# Altium footprint library RCL_box.PcbLib: 17 footprints (part 1 of 2)
Each footprint in its own frame and in the unit in brackets; x right, y up, seen from the top. Pads: shape width x height; smd on the part's side, far side on the other; paste and mask are expansions set on the pad; w line width, h text height; cw(c..) or ccw(c..) is an arc to the next point about the centre after c.
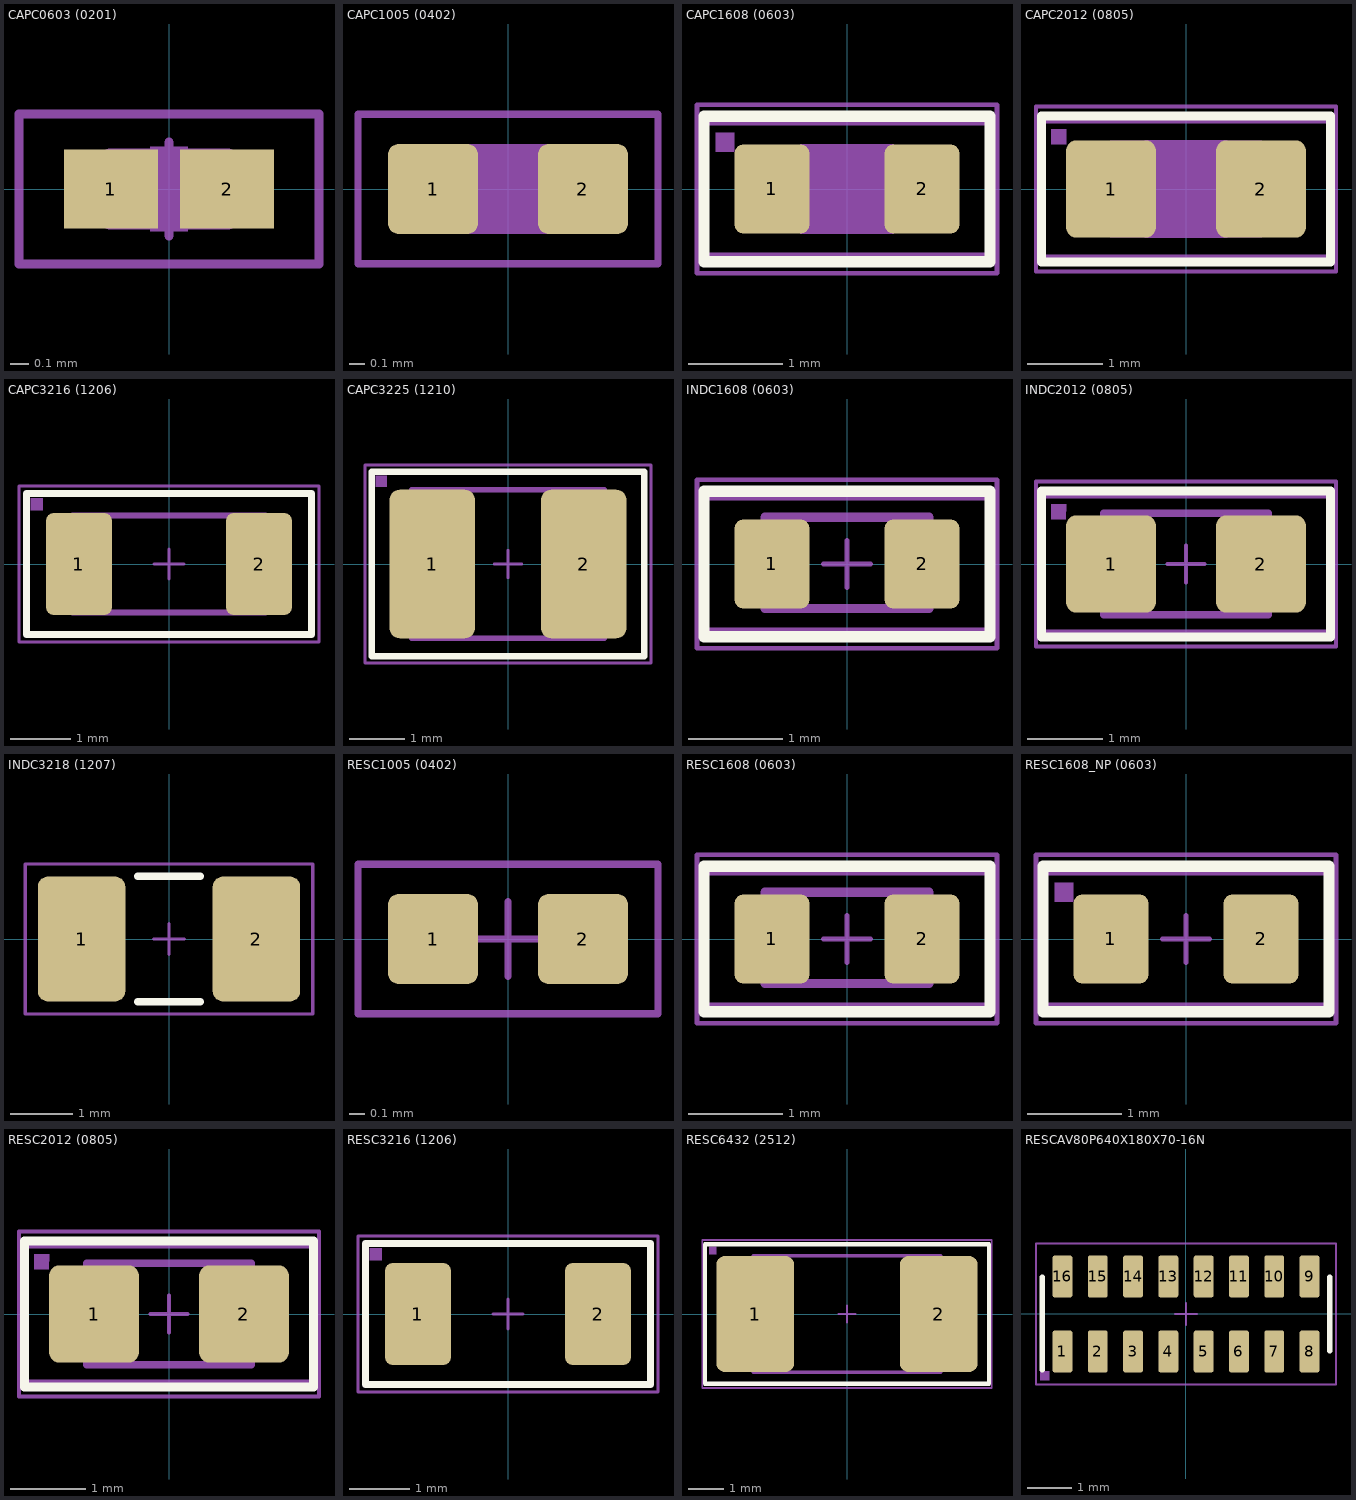
[diagram p0: the footprints below, top view; thin cyan lines are the x and y axes]

## CAPC0603 (0201) [mm] "Metric (Imperial)"
height 0.33
pads (2):
  rect 0.5x0.42 smd: 1(-0.31,0) 2(0.31,0)
13. 3D Model TOP:
  pour cut-out: -0.1,0.225 0.1,0.225 0.1,-0.225 -0.1,-0.225
15. Courtyard TOP:
  lines w0.05: -0.25,0 0.25,0 ; 0,-0.25 0,0.25 ; -0.8,-0.4 0.8,-0.4 0.8,0.4 -0.8,0.4 -0.8,-0.4
17. Comp.body:
  lines w0.1: -0.315,-0.165 0.315,-0.165 0.315,0.165 -0.315,0.165 -0.315,-0.165
18. Assembly TOP:
  lines w0.05: -0.8,-0.4 0.8,-0.4 0.8,0.4 -0.8,0.4 -0.8,-0.4
  text ".designator" at -0.9,-0.25 h0.5
3D body: height 0.33, standoff 0, extent 0.165,-0.165 0.315,0.165
3D body: height 0.33, standoff 0, extent -0.315,-0.165 -0.165,0.165
3D body: height 0.33, standoff 0, extent -0.165,-0.165 0.165,0.165

## CAPC1005 (0402) [mm] "Metric (Imperial)"
height 0.4
pads (2):
  rrect23% 0.6x0.6 smd: 1(-0.5,0) 2(0.5,0)
13. 3D Model TOP:
  pour cut-out: -0.275,0.3 0.275,0.3 0.275,-0.3 -0.275,-0.3
15. Courtyard TOP:
  lines w0.05: -0.25,0 0.25,0 ; 0,-0.25 0,0.25 ; -1,-0.5 -1,0.5 1,0.5 1,-0.5 -1,-0.5
17. Comp.body:
  lines w0.1: -0.5,-0.25 -0.5,0.25 0.5,0.25 0.5,-0.25 -0.5,-0.25
18. Assembly TOP:
  lines w0.05: -1,-0.5 -1,0.5 1,0.5 1,-0.5 -1,-0.5
  text ".designator" at -0.9,-0.25 h0.5
3D body: height 0.48, standoff -0.02, extent -0.5,-0.25 0.5,0.25

## CAPC1608 (0603) [mm] "Metric (Imperial)"
height 0.55
pads (2):
  rrect23% 0.8x0.95 smd: 1(-0.8,0) 2(0.8,0)
Top Overlay:
  lines w0.12: -1.525,-0.775 1.525,-0.775 1.525,0.775 -1.525,0.775 -1.525,-0.775
13. 3D Model TOP:
  pour cut-out: -0.5,0.475 0.5,0.475 0.5,-0.475 -0.5,-0.475
15. Courtyard TOP:
  lines w0.05: -0.25,0 0.25,0 ; 0,-0.25 0,0.25 ; -1.6,-0.9 -1.6,0.9 1.6,0.9 1.6,-0.9 -1.6,-0.9
17. Comp.body:
  lines w0.1: -0.8,-0.4 -0.8,0.4 0.8,0.4 0.8,-0.4 -0.8,-0.4
18. Assembly TOP:
  region: -1.4,0.6 -1.2,0.6 -1.2,0.4 -1.4,0.4
  lines w0.05: -1.5,-0.7 -1.5,0.7 1.5,0.7 1.5,-0.7 -1.5,-0.7
  text ".designator" at -1.275,-0.35 h0.7
3D body: height 0.81, standoff 0.01, extent -0.8,-0.4 0.8,0.4

## CAPC2012 (0805) [mm] "Metric (Imperial)"
height 0.7
pads (2):
  rrect23% 1.2x1.3 smd: 1(-1,0) 2(1,0)
Top Overlay:
  lines w0.12: -1.925,-0.975 1.925,-0.975 1.925,0.975 -1.925,0.975 -1.925,-0.975
13. 3D Model TOP:
  pour cut-out: -0.55,0.65 0.55,0.65 0.55,-0.65 -0.55,-0.65
15. Courtyard TOP:
  lines w0.05: -0.25,0 0.25,0 ; 0,-0.25 0,0.25 ; -2,-1.1 -2,1.1 2,1.1 2,-1.1 -2,-1.1
17. Comp.body:
  lines w0.1: -1,-0.6 -1,0.6 1,0.6 1,-0.6 -1,-0.6
18. Assembly TOP:
  region: -1.8,0.8 -1.6,0.8 -1.6,0.6 -1.8,0.6
  lines w0.05: -1.9,-0.9 1.9,-0.9 1.9,0.9 -1.9,0.9 -1.9,-0.9
  text ".designator" at -1.825,-0.5 h1
3D body: height 0.61, standoff 0.01, extent -1,-0.625 1,0.625

## CAPC3216 (1206) [mm] "Metric (Imperial)"
height 2.54
pads (2):
  rrect23% 1.1x1.7 smd: 1(-1.5,0) 2(1.5,0)
Top Overlay:
  lines w0.12: -2.375,-1.175 -2.375,1.175 2.375,1.175 2.375,-1.175 -2.375,-1.175
15. Courtyard TOP:
  lines w0.05: -0.25,0 0.25,0 ; 0,-0.25 0,0.25 ; -2.5,-1.3 2.5,-1.3 2.5,1.3 -2.5,1.3 -2.5,-1.3
17. Comp.body:
  lines w0.1: -1.61,0.81 1.61,0.81 1.61,-0.81 -1.61,-0.81 -1.61,0.8 -1.6,0.81
18. Assembly TOP:
  region: -2.3,1.1 -2.1,1.1 -2.1,0.9 -2.3,0.9
  lines w0.05: -2.4,-1.2 -2.4,1.2 2.4,1.2 2.4,-1.2 -2.4,-1.2
  text ".designator" at -2.2,-0.6 h1.2
3D body: height 0.61, standoff -0.01, extent -1.61,-0.81 1.61,0.81

## CAPC3225 (1210) [mm] "Metric (Imperial)"
height 2.7
pads (2):
  rrect23% 1.55x2.7 smd: 1(-1.375,0) 2(1.375,0)
Top Overlay:
  lines w0.12: -2.475,-1.675 -2.475,1.675 2.475,1.675 2.475,-1.675 -2.475,-1.675
15. Courtyard TOP:
  lines w0.05: -0.25,0 0.25,0 ; 0,-0.25 0,0.25 ; -2.6,-1.8 -2.6,1.8 2.6,1.8 2.6,-1.8 -2.6,-1.8
17. Comp.body:
  lines w0.1: -1.75,-1.35 1.75,-1.35 1.75,1.35 -1.75,1.35 -1.75,-1.35
18. Assembly TOP:
  region: -2.4,1.6 -2.2,1.6 -2.2,1.4 -2.4,1.4
  lines w0.05: -2.5,-1.7 -2.5,1.7 2.5,1.7 2.5,-1.7 -2.5,-1.7
  text ".designator" at -2.2,-0.6 h1.2
3D body: height 2.7, standoff 0, extent -1.15,-1.35 1.15,1.35
3D body: height 2.7, standoff 0, extent -1.75,-1.35 -1.15,1.35
3D body: height 2.7, standoff 0, extent 1.15,-1.35 1.75,1.35

## INDC1608 (0603) [mm] "Metric (Imperial)"
height 0.55
pads (2):
  rrect23% 0.8x0.95 smd: 1(-0.8,0) 2(0.8,0)
Top Overlay:
  lines w0.12: -1.525,-0.775 1.525,-0.775 1.525,0.775 -1.525,0.775 -1.525,-0.775
15. Courtyard TOP:
  lines w0.05: -0.25,0 0.25,0 ; 0,-0.25 0,0.25 ; -1.6,-0.9 -1.6,0.9 1.6,0.9 1.6,-0.9 -1.6,-0.9
17. Comp.body:
  lines w0.1: -0.875,-0.475 -0.875,0.5 0.875,0.5 0.875,-0.475 -0.875,-0.475
18. Assembly TOP:
  lines w0.05: -1.5,-0.7 -1.5,0.7 1.5,0.7 1.5,-0.7 -1.5,-0.7
  text ".designator" at -1.3,-0.35 h0.7
3D body: height 0.95, standoff 0, extent -0.8,-0.4 0.8,0.4

## INDC2012 (0805) [mm] "Metric (Imperial)"
height 0.7
pads (2):
  rrect23% 1.2x1.3 smd: 1(-1,0) 2(1,0)
Top Overlay:
  lines w0.12: -1.925,-0.975 -1.925,0.975 1.925,0.975 1.925,-0.975 -1.925,-0.975
15. Courtyard TOP:
  lines w0.05: -0.25,0 0.25,0 ; 0,-0.25 0,0.25 ; -2,-1.1 -2,1.1 2,1.1 2,-1.1 -2,-1.1
17. Comp.body:
  lines w0.1: -1.1,-0.675 -1.1,0.675 1.1,0.675 1.1,-0.675 -1.1,-0.675
18. Assembly TOP:
  region: -1.8,0.8 -1.6,0.8 -1.6,0.6 -1.8,0.6
  lines w0.05: -1.9,-0.9 -1.9,0.9 1.9,0.9 1.9,-0.9 -1.9,-0.9
  text ".designator" at -1.825,-0.5 h1
3D body: height 1, standoff 0.05, extent -1,-0.6 1,0.6

## INDC3218 (1207) [mm] "Chip Inductor, 2-Leads, Body 3,20x1,80mm, IPC Medium Density"
height 2
pads (2):
  rrect23% 1.4x2 smd: 1(-1.4,0) 2(1.4,0)
Top Overlay:
  lines w0.12: -0.5,-1 0.5,-1 ; -0.5,1 0.5,1
15. Courtyard TOP:
  lines w0.05: -0.25,0 0.25,0 ; 0,-0.25 0,0.25 ; -2.3,-1.2 2.3,-1.2 2.3,1.2 -2.3,1.2 -2.3,-1.2
18. Assembly TOP:
  lines w0.05: -2.3,-1.2 -2.3,1.2 2.3,1.2 2.3,-1.2 -2.3,-1.2
  text ".designator" at -1.9,-0.5 h1
3D body: height 2, standoff 0, extent -1.1,-1 1.1,1
3D body: height 2, standoff 0, extent -1.7,-1 -1.1,1
3D body: height 2, standoff 0, extent 1.1,-1 1.7,1

## RESC1005 (0402) [mm] "Metric (Imperial)"
height 0.4
pads (2):
  rrect23% 0.6x0.6 smd: 1(-0.5,0) 2(0.5,0)
15. Courtyard TOP:
  lines w0.05: -0.25,0 0.25,0 ; 0,-0.25 0,0.25 ; -1,-0.5 1,-0.5 1,0.5 -1,0.5 -1,-0.5
18. Assembly TOP:
  lines w0.05: -1,-0.5 1,-0.5 1,0.5 -1,0.5 -1,-0.5
  text ".designator" at -0.9,-0.25 h0.5
3D body: height 0.36, standoff -0.01, extent -0.51,-0.26 0.51,0.26

## RESC1608 (0603) [mm] "Metric (Imperial)"
height 0.55
pads (2):
  rrect23% 0.8x0.95 smd: 1(-0.8,0) 2(0.8,0)
Top Overlay:
  lines w0.12: -1.525,-0.775 -1.525,0.775 1.525,0.775 1.525,-0.775 -1.525,-0.775
15. Courtyard TOP:
  lines w0.05: -0.25,0 0.25,0 ; 0,-0.25 0,0.25 ; -1.6,-0.9 -1.6,0.9 1.6,0.9 1.6,-0.9 -1.6,-0.9
17. Comp.body:
  lines w0.1: -0.875,-0.475 -0.875,0.5 0.875,0.5 0.875,-0.475 -0.875,-0.475
18. Assembly TOP:
  lines w0.05: -1.5,-0.7 -1.5,0.7 1.5,0.7 1.5,-0.7 -1.5,-0.7
  text ".designator" at -1.3,-0.35 h0.7
3D body: height 0.55, standoff 0.01, extent -0.575,-0.475 0.575,0.475
3D body: height 0.55, standoff 0, extent -0.875,-0.475 -0.575,0.475
3D body: height 0.55, standoff 0, extent 0.575,-0.475 0.875,0.475

## RESC1608_NP (0603) [mm] "Metric (Imperial)"
height 0.55
pads (2):
  rrect23% 0.8x0.95 smd: 1(-0.8,0) 2(0.8,0)
Top Overlay:
  lines w0.12: -1.525,-0.775 1.525,-0.775 1.525,0.775 -1.525,0.775 -1.525,-0.775
15. Courtyard TOP:
  lines w0.05: -0.25,0 0.25,0 ; 0,-0.25 0,0.25 ; -1.6,-0.9 -1.6,0.9 1.6,0.9 1.6,-0.9 -1.6,-0.9
18. Assembly TOP:
  region: -1.4,0.6 -1.2,0.6 -1.2,0.4 -1.4,0.4
  lines w0.05: -1.5,-0.7 -1.5,0.7 1.5,0.7 1.5,-0.7 -1.5,-0.7
  text ".designator" at -1.3,-0.35 h0.7

## RESC2012 (0805) [mm] "Metric (Imperial)"
height 0.7
pads (2):
  rrect23% 1.2x1.3 smd: 1(-1,0) 2(1,0)
Top Overlay:
  lines w0.12: -1.925,-0.975 -1.925,0.975 1.925,0.975 1.925,-0.975 -1.925,-0.975
15. Courtyard TOP:
  lines w0.05: -0.25,0 0.25,0 ; 0,-0.25 0,0.25 ; -2,-1.1 2,-1.1 2,1.1 -2,1.1 -2,-1.1
17. Comp.body:
  lines w0.1: -1.1,-0.675 1.1,-0.675 1.1,0.675 -1.1,0.675 -1.1,-0.675
18. Assembly TOP:
  region: -1.8,0.8 -1.6,0.8 -1.6,0.6 -1.8,0.6
  lines w0.05: -1.9,-0.9 1.9,-0.9 1.9,0.9 -1.9,0.9 -1.9,-0.9
  text ".designator" at -1.825,-0.5 h1
3D body: height 0.61, standoff -0.01, extent -1.01,-0.635 1.01,0.635

## RESC3216 (1206) [mm] "Metric (Imperial)"
height 2.54
pads (2):
  rrect23% 1.1x1.7 smd: 1(-1.5,0) 2(1.5,0)
Top Overlay:
  lines w0.12: -2.375,-1.175 2.375,-1.175 2.375,1.175 -2.375,1.175 -2.375,-1.175
15. Courtyard TOP:
  lines w0.05: -0.25,0 0.25,0 ; 0,-0.25 0,0.25 ; -2.5,-1.3 -2.5,1.3 2.5,1.3 2.5,-1.3 -2.5,-1.3
18. Assembly TOP:
  region: -2.3,1.1 -2.1,1.1 -2.1,0.9 -2.3,0.9
  lines w0.05: -2.4,-1.2 -2.4,1.2 2.4,1.2 2.4,-1.2 -2.4,-1.2
  text ".designator" at -2.2,-0.6 h1.2
3D body: height 0.61, standoff -0.01, extent -1.61,-0.81 1.61,0.81

## RESC6432 (2512) [mm] "Chip Resistor, 2-Leads, Body 5,65x3,10mm, IPC Medium Density"
height 2.1
pads (2):
  rrect23% 2.2x3.3 smd: 1(-2.6,0) 2(2.6,0)
Top Overlay:
  lines w0.12: -4.025,-1.975 4.025,-1.975 4.025,1.975 -4.025,1.975 -4.025,-1.975
15. Courtyard TOP:
  lines w0.05: -0.25,0 0.25,0 ; 0,-0.25 0,0.25 ; -4.1,-2.1 -4.1,2.1 4.1,2.1 4.1,-2.1 -4.1,-2.1
17. Comp.body:
  lines w0.1: -2.65,-1.65 -2.65,1.65 2.65,1.65 2.65,-1.65 -2.65,-1.65
18. Assembly TOP:
  region: -3.9,1.9 -3.7,1.9 -3.7,1.7 -3.9,1.7
  lines w0.05: -4,-2 4,-2 4,2 -4,2 -4,-2
  text ".designator" at -2.725,-0.75 h1.5
3D body: height 2.1, standoff 0, extent -1.45,-1.65 1.45,1.65
3D body: height 2.1, standoff 0, extent -2.65,-1.65 -1.45,1.65
3D body: height 2.1, standoff 0, extent 1.45,-1.65 2.65,1.65

## RESCAV80P640X180X70-16N [mm]
height 0.7
pads (16):
  rrect23% 0.45x0.95 smd: 1(-2.8,-0.85) 2(-2,-0.85) 3(-1.2,-0.85) 4(-0.4,-0.85) 5(0.4,-0.85) 6(1.2,-0.85) 7(2,-0.85) 8(2.8,-0.85) 9(2.8,0.85) 10(2,0.85) 11(1.2,0.85) 12(0.4,0.85) 13(-0.4,0.85) 14(-1.2,0.85) 15(-2,0.85) 16(-2.8,0.85)
Top Overlay:
  lines w0.12: -3.26,-1.27 -3.26,0.84 ; 3.26,-0.84 3.26,0.84
15. Courtyard TOP:
  lines w0.05: -0.25,0 0.25,0 ; 0,-0.25 0,0.25 ; -3.4,-1.6 -3.4,1.6 3.4,1.6 3.4,-1.6 -3.4,-1.6
18. Assembly TOP:
  region: -3.3,-1.5 -3.3,-1.3 -3.1,-1.3 -3.1,-1.5
  lines w0.05: -3.4,-1.6 -3.4,1.6 3.4,1.6 3.4,-1.6 -3.4,-1.6
  text ".designator" at -2.725,-0.75 h1.5
3D body: height 0.7, standoff 0, extent -3.2,-0.9 3.2,0.9